# EAGLE library part TXB0101DCKR (library ul_TXB0101DCKR)
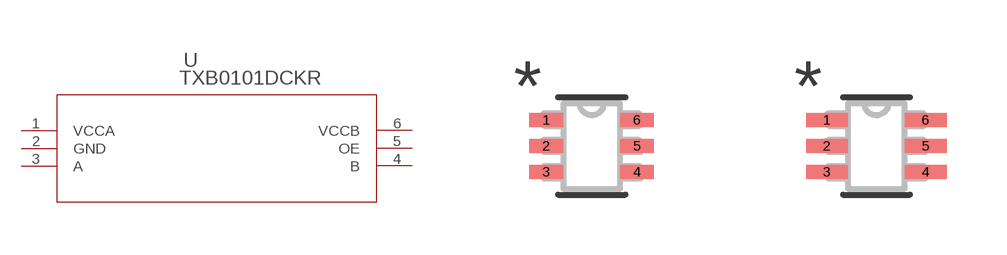
[diagram p0: symbol with the pads of DCK6; footprints DCK6, DCK6-M]

Designator prefix U

## TXB0101DCKR (COPYRIGHT: Copyright (C) 2022 Ultra Librarian. All rights reserved.; MANUFACTURER_PART_NUMBER: TXB0101DCKR; MFR_NAME: Texas Instruments)  [DCK6]
1  VCCA  pwr
2  GND  pwr
3  A
4  B
5  OE  out
6  VCCB  pwr

## TXB0101DCKRDCK6-M (COPYRIGHT: Copyright (C) 2022 Ultra Librarian. All rights reserved.; MANUFACTURER_PART_NUMBER: TXB0101DCKR; MFR_NAME: Texas Instruments)  [DCK6-M]
Pads as for DCK6

## TXB0101DCKRDCK6-L (COPYRIGHT: Copyright (C) 2022 Ultra Librarian. All rights reserved.; MANUFACTURER_PART_NUMBER: TXB0101DCKR; MFR_NAME: Texas Instruments)  [DCK6-L]
Pads as for DCK6

## Footprint DCK6 (pad centres in mm)
smd 0.845 x 0.355: 1 -1.134,0.65; 2 -1.134,0; 3 -1.134,-0.65; 4 1.134,-0.65; 5 1.134,0; 6 1.134,0.65

## Footprint DCK6-M (pad centres in mm)
smd 1.045 x 0.355: 1 -1.234,0.65; 2 -1.234,0; 3 -1.234,-0.65; 4 1.234,-0.65; 5 1.234,0; 6 1.234,0.65

## Footprint DCK6-L (pad centres in mm)
smd 0.645 x 0.305: 1 -1.034,0.65; 2 -1.034,0; 3 -1.034,-0.65; 4 1.034,-0.65; 5 1.034,0; 6 1.034,0.65